# Altium schematic symbol library 150060YS75000.SchLib: 1 symbol
Pins are listed as number, name and electrical type; pins without a type are passive.

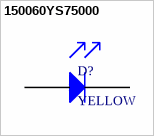
[diagram p0: symbol 150060YS75000]

## 150060YS75000
designator D?, comment YELLOW
150060YS75000 Yellow LED diode, Wurth
footprint SODFL160X80-2N (SODFL, 2-Leads, Body 0.75x1.60mm, IPC Medium Density)
pins: 1 C, 2 A